# Altium schematic symbol library SCH - POWER - MODULE - TI-TPS2121RUXR.SCHLIB: 1 symbol
Pins are listed as number, name and electrical type; pins without a type are passive.

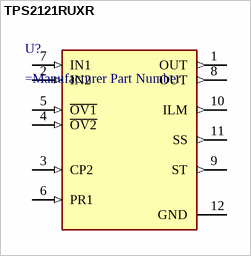
[diagram p0: symbol TPS2121RUXR]

## TPS2121RUXR
designator U?
*
pins: 1 OUT (out), 2 IN2 (in), 3 CP2 (in), 4 ~{OV2} (in), 5 ~{OV1} (in), 6 PR1 (in), 7 IN1 (in), 8 OUT (out), 9 ST (out), 10 ILM (out), 11 SS (out), 12 GND (power)